# EAGLE library part MICRO_SD (library Bits_library_eagle)
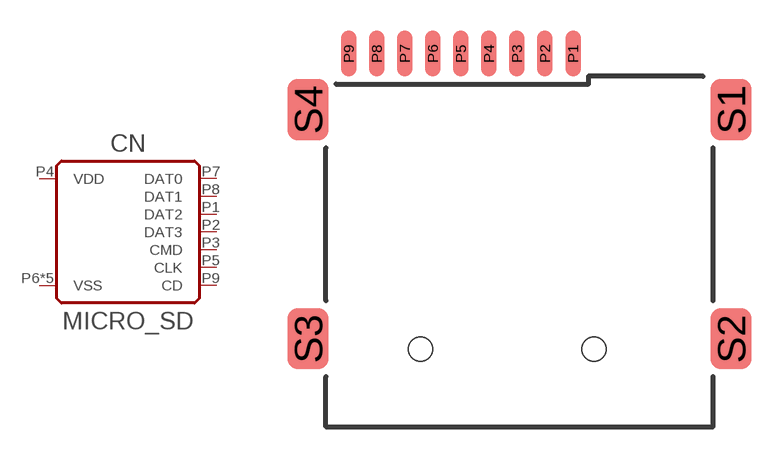
[diagram p29: symbol with the pads of SD_MEM2075; footprint SD_MEM2075]

Designator prefix CN

## MICRO_SD  [SD_MEM2075]
P1  DAT2
P2  DAT3
P3  CMD
P4  VDD  pwr
P5  CLK
P6  VSS  pwr
P7  DAT0
P8  DAT1
P9  CD
S1  VSS  pwr
S2  VSS  pwr
S3  VSS  pwr
S4  VSS  pwr

## Footprint SD_MEM2075 (pad centres in mm)
smd 0.6 x 1.8: P1 2.1,6.7; P2 1,6.7; P3 -0.1,6.7; P4 -1.2,6.7; P5 -2.3,6.7; P6 -3.4,6.7; P7 -4.5,6.7; P8 -5.6,6.7; P9 -6.7,6.7
smd 1.6 x 2.4: S1 8.3,4.5; S2 8.3,-4.5; S3 -8.3,-4.5; S4 -8.3,4.5
hole 0.95 at -3.875,-4.92
hole 0.95 at 2.915,-4.92